# EAGLE library part MCP2515 (library PI_Shield_Library)
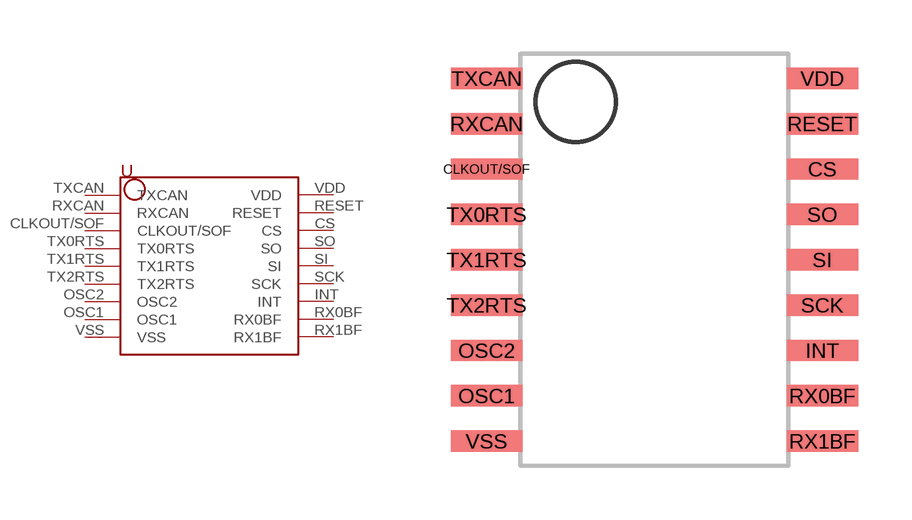
[diagram p0: symbol with the pads of MCP2515; footprint MCP2515]

Designator prefix -

## MCP2515  [MCP2515]
CLKOUT/SOF  CLKOUT/SOF
CS  CS
INT  INT
OSC1  OSC1
OSC2  OSC2
RESET  RESET
RX0BF  RX0BF
RX1BF  RX1BF
RXCAN  RXCAN
SCK  SCK
SI  SI
SO  SO
TX0RTS  TX0RTS
TX1RTS  TX1RTS
TX2RTS  TX2RTS
TXCAN  TXCAN
VDD  VDD
VSS  VSS

## Footprint MCP2515 (pad centres in mm)
smd 2 x 0.6: CLKOUT/SOF 0,7.62; CS 9.4,7.62; INT 9.4,2.54; OSC1 0,1.27; OSC2 0,2.54; RESET 9.4,8.89; RX0BF 9.4,1.27; RX1BF 9.4,0; RXCAN 0,8.89; SCK 9.4,3.81; SI 9.4,5.08; SO 9.4,6.35; TX0RTS 0,6.35; TX1RTS 0,5.08; TX2RTS 0,3.81; TXCAN 0,10.16; VDD 9.4,10.16; VSS 0,0